# EAGLE library part SE2568U (library SE2568U-R)
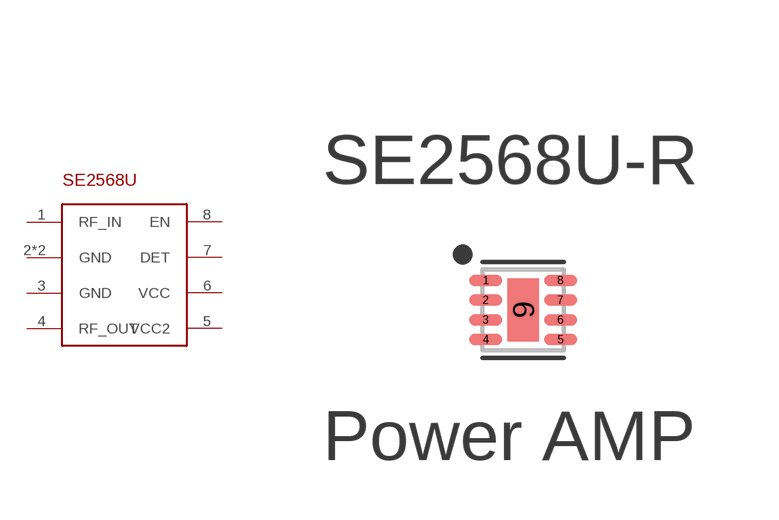
[diagram p0: symbol with the pads of SON50P202X202X80-9T80X160; footprint SON50P202X202X80-9T80X160]

Designator prefix -

## SE2568UDFN8  [SON50P202X202X80-9T80X160]
1  RF_IN
2  GND
3  GND
4  RF_OUT
5  VCC2
6  VCC
7  DET
8  EN
9  GND

## Footprint SON50P202X202X80-9T80X160 (pad centres in mm)
8-SON, 0.50 mm pitch, 2.02 X 2.02 X 0.80 mm body, 1.60 X 0.80 mm thermal pad 8-pin SON package with 0.50 mm pitch with body size 2.02 X 2.02 X 0.80 mm and thermal pad size 1.60 X 0.80 mm
smd 0.831 x 0.292: 1 -0.946,0.75; 2 -0.946,0.25; 3 -0.946,-0.25; 4 -0.946,-0.75; 5 0.946,-0.75; 6 0.946,-0.25; 7 0.946,0.25; 8 0.946,0.75
smd 0.8 x 1.6: 9 0,0